# Altium integrated library 320.01E11WHT.IntLib: 1 symbol
Pins are listed as number, name and electrical type; pins without a type are passive.

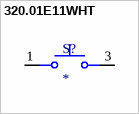
[diagram p0: symbol 320.01E11WHT]

## 320.01E11WHT
designator S?
PUSHBUTTON, 25mA, 50VDC SPST-NO, Off-(On) Through Hole; MF: E-Switch; MP: 320.01E11WHT; SnapEDA_Link: https://www.snapeda.com/parts/320.01E11WHT/E-Switch/view-part/?ref=snap; Package: None; Value: *; Check_prices: https://www.snapeda.com/parts/320.01E11WHT/E-Switch/view-part/?ref=eda
footprint SW_320.01E11WHT
pins: 1, 3